# Altium integrated library National Semiconductor Amplifier.IntLib: 1665 symbols (part 3 of 44)
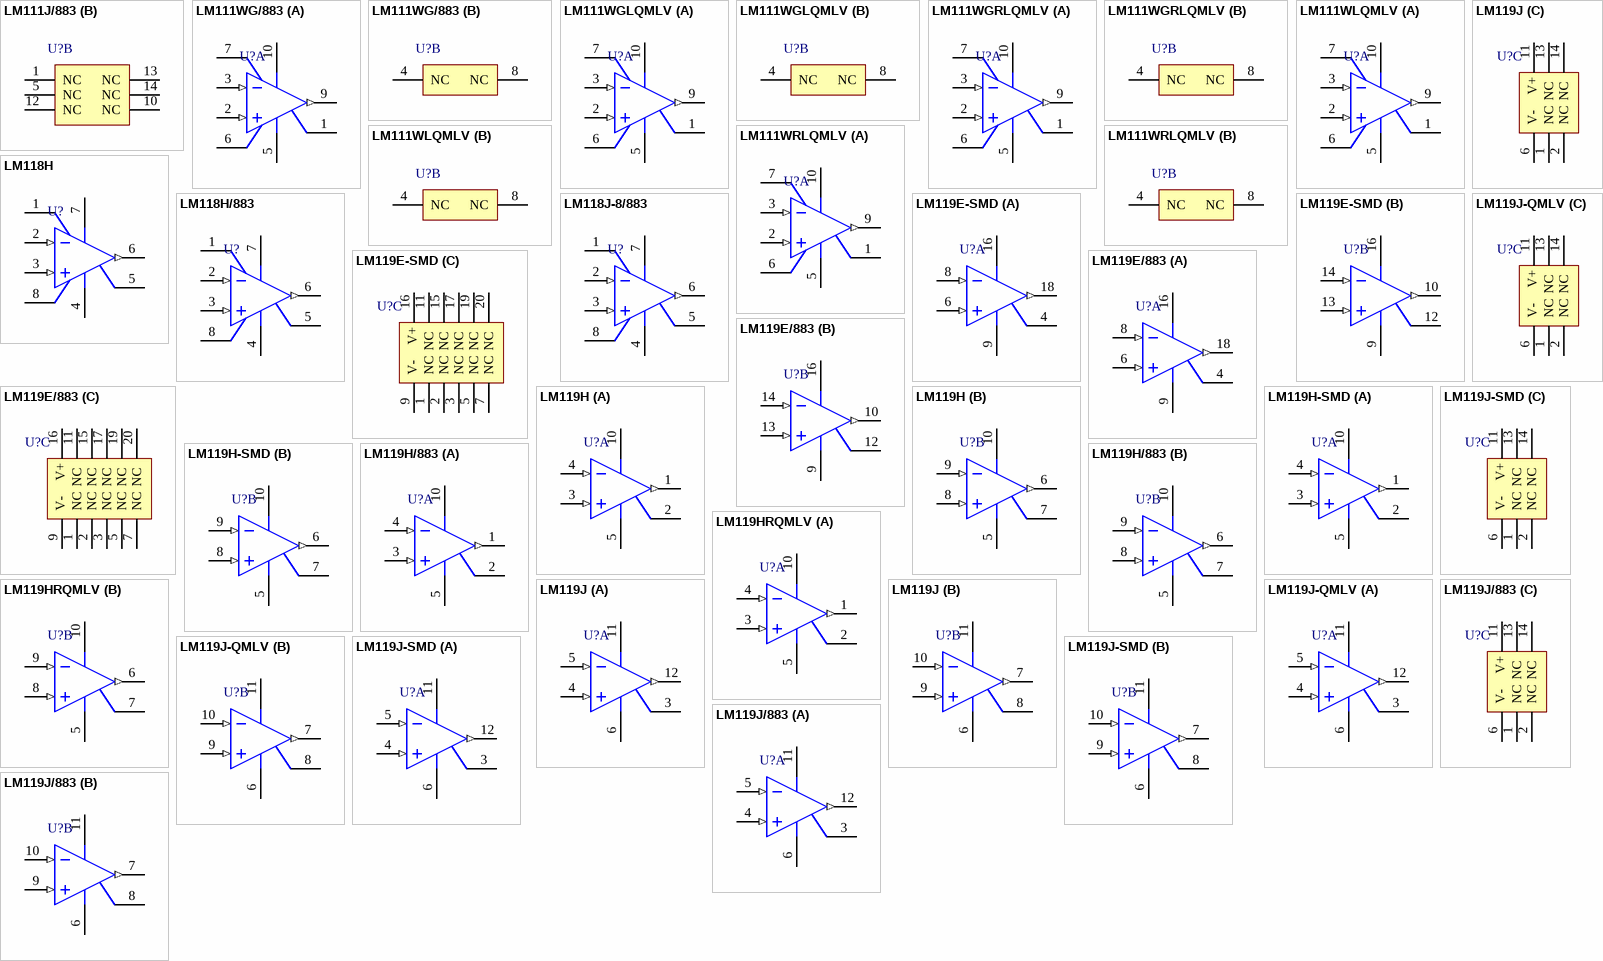
[diagram p86: symbols LM111J/883 to LM119J/883]

## LM118J-8/883
designator U?
Operational Amplifier, 8-pin CerDIP; PartNumber: LM118J-8/883; Manufacturer: National Semiconductor; PackageTopMarking: NSZSSXXYYA*LM118J-8*/883 Q; PowerWise: N; CompType: Amplifiers; High-Reliability: Y; DatasheetVersion: Aug-2000; PackageVersion: revM, Jul-2002; PackageReference: J08A; PackageDescription: Cerdip, .400 x .310in Body, 8 Lead, .300in Centers, .100in Pitch; RoHS: N; PinCount: 8; ComponentLink1Description: Manufacturer URL; ComponentLink1URL: http://www.national.com/; ComponentLink2Description: LM118 Datasheet; ComponentLink2URL: http://www.national.com/ds/LM/LM118QML.pdf; ComponentLink3Description: LM118 Web Page; ComponentLink3URL: http://www.national.com/pf/LM/LM118.html; ComponentLink4Description: J08A Package Page; ComponentLink4URL: http://www.national.com/packaging/folders/j08a.html
footprint J08A (DIP, 8-Leads, Row Spacing 7.62mm, Pitch 2.54mm, Body 9.78x6.73mm)
pins: 1 BAL/COMP1, 2 IN- (in), 3 IN+ (in), 4 V- (power), 5 BAL/COMP3, 6 OUT (out), 7 V+ (power), 8 COMP2

## LM119E-SMD
designator U?
High Speed Dual Comparator, 20-pin LCC; PartNumber: LM119E-SMD; Manufacturer: National Semiconductor; PackageTopMarking: NS ZSSXXYYA*Q*86014012A*27014; PowerWise: N; CompType: Amplifiers; High-Reliability: Y; DatasheetVersion: Jul-2008; PackageVersion: revF, May-2004; PackageReference: E20A; PackageDescription: Leadless Chip Carrier, Type C, 20 Terminal; RoHS: N; PinCount: 20; Code_JEDEC: MS-004-CB; ComponentLink1Description: Manufacturer URL; ComponentLink1URL: http://www.national.com/; ComponentLink2Description: LM119 Datasheet; ComponentLink2URL: http://www.national.com/ds/LM/LM119QML.pdf; ComponentLink3Description: LM119 Web Page; ComponentLink3URL: http://www.national.com/pf/LM/LM119.html; ComponentLink4Description: E20A Package Page; ComponentLink4URL: http://www.national.com/packaging/folders/e20a.html
footprint E20A_N (Leadless Chip Carrier, 20-Leads, Body 8.9x8.9mm, Pitch 1.27mm, IPC Medium Density)
footprint E20A_L (Leadless Chip Carrier, 20-Leads, Body 8.9x8.9mm, Pitch 1.27mm, IPC High Density)
footprint E20A_M (Leadless Chip Carrier, 20-Leads, Body 8.9x8.9mm, Pitch 1.27mm, IPC Low Density)
pins on every part: 9 V- (power), 16 V+ (power)
part A pins: 4 GND1 (power), 6 IN1+ (in), 8 IN1- (in), 18 OUT1 (out)
part B pins: 10 OUT2 (out), 12 GND2 (power), 13 IN2+ (in), 14 IN2- (in)
part C pins: 1 NC, 2 NC, 3 NC, 5 NC, 7 NC, 11 NC, 15 NC, 17 NC, 19 NC, 20 NC

## LM119E/883
designator U?
High Speed Dual Comparator, 20-pin LCC; PartNumber: LM119E/883; Manufacturer: National Semiconductor; PackageTopMarking: NSZSSXXYYA*LM119E*/883 Q; PowerWise: N; CompType: Amplifiers; High-Reliability: Y; DatasheetVersion: Jul-2008; PackageVersion: revF, May-2004; PackageReference: E20A; PackageDescription: Leadless Chip Carrier, Type C, 20 Terminal; RoHS: N; PinCount: 20; Code_JEDEC: MS-004-CB; ComponentLink1Description: Manufacturer URL; ComponentLink1URL: http://www.national.com/; ComponentLink2Description: LM119 Datasheet; ComponentLink2URL: http://www.national.com/ds/LM/LM119QML.pdf; ComponentLink3Description: LM119 Web Page; ComponentLink3URL: http://www.national.com/pf/LM/LM119.html; ComponentLink4Description: E20A Package Page; ComponentLink4URL: http://www.national.com/packaging/folders/e20a.html
footprint E20A_N (Leadless Chip Carrier, 20-Leads, Body 8.9x8.9mm, Pitch 1.27mm, IPC Medium Density)
footprint E20A_L (Leadless Chip Carrier, 20-Leads, Body 8.9x8.9mm, Pitch 1.27mm, IPC High Density)
footprint E20A_M (Leadless Chip Carrier, 20-Leads, Body 8.9x8.9mm, Pitch 1.27mm, IPC Low Density)
pins on every part: 9 V- (power), 16 V+ (power)
part A pins: 4 GND1 (power), 6 IN1+ (in), 8 IN1- (in), 18 OUT1 (out)
part B pins: 10 OUT2 (out), 12 GND2 (power), 13 IN2+ (in), 14 IN2- (in)
part C pins: 1 NC, 2 NC, 3 NC, 5 NC, 7 NC, 11 NC, 15 NC, 17 NC, 19 NC, 20 NC

## LM119H
designator U?
High Speed Dual Comparator, 10-pin TO-100; PartNumber: LM119H; Manufacturer: National Semiconductor; PackageTopMarking: NSZXYTTE# LM119H; PowerWise: N; CompType: Amplifiers; High-Reliability: Y; DatasheetVersion: Aug-2000; PackageVersion: revG, Nov-2008; PackageReference: H10C; PackageDescription: Metal Can, TO-100, 10 Lead, .230in Dia, P.C.; RoHS: N; PinCount: 10; ComponentLink1Description: Manufacturer URL; ComponentLink1URL: http://www.national.com/; ComponentLink2Description: LM119 Datasheet; ComponentLink2URL: http://www.national.com/ds/LM/LM119.pdf; ComponentLink3Description: LM119 Web Page; ComponentLink3URL: http://www.national.com/pf/LM/LM119.html; ComponentLink4Description: H10C Package Page; ComponentLink4URL: http://www.national.com/packaging/folders/h10c.html
footprint H10C (Can; 10 Leads; Pin Circle Dia. 5.84 mm; Lead Dia. 0.48 mm (max))
pins on every part: 5 V- (power), 10 V+ (power)
part A pins: 1 OUT1 (out), 2 GND1 (power), 3 IN1+ (in), 4 IN1- (in)
part B pins: 6 OUT2 (out), 7 GND2 (power), 8 IN2+ (in), 9 IN2- (in)

## LM119H-SMD
designator U?
High Speed Dual Comparator, 10-pin TO-100; PartNumber: LM119H-SMD; Manufacturer: National Semiconductor; PackageTopMarking: NSZSSXXYYA Q*8601401IA 27014; PowerWise: N; CompType: Amplifiers; High-Reliability: Y; DatasheetVersion: Aug-2000; PackageVersion: revG, Nov-2008; PackageReference: H10C; PackageDescription: Metal Can, TO-100, 10 Lead, .230in Dia, P.C.; RoHS: N; PinCount: 10; ComponentLink1Description: Manufacturer URL; ComponentLink1URL: http://www.national.com/; ComponentLink2Description: LM119 Datasheet; ComponentLink2URL: http://www.national.com/ds/LM/LM119QML.pdf; ComponentLink3Description: LM119 Web Page; ComponentLink3URL: http://www.national.com/pf/LM/LM119.html; ComponentLink4Description: H10C Package Page; ComponentLink4URL: http://www.national.com/packaging/folders/h10c.html
footprint H10C (Can; 10 Leads; Pin Circle Dia. 5.84 mm; Lead Dia. 0.48 mm (max))
pins on every part: 5 V- (power), 10 V+ (power)
part A pins: 1 OUT1 (out), 2 GND1 (power), 3 IN1+ (in), 4 IN1- (in)
part B pins: 6 OUT2 (out), 7 GND2 (power), 8 IN2+ (in), 9 IN2- (in)

## LM119H/883
designator U?
High Speed Dual Comparator, 10-pin TO-100; PartNumber: LM119H/883; Manufacturer: National Semiconductor; PackageTopMarking: NSZSSXXYYA LM119H/883 Q; PowerWise: N; CompType: Amplifiers; High-Reliability: Y; DatasheetVersion: Aug-2000; PackageVersion: revG, Nov-2008; PackageReference: H10C; PackageDescription: Metal Can, TO-100, 10 Lead, .230in Dia, P.C.; RoHS: N; PinCount: 10; ComponentLink1Description: Manufacturer URL; ComponentLink1URL: http://www.national.com/; ComponentLink2Description: LM119 Datasheet; ComponentLink2URL: http://www.national.com/ds/LM/LM119QML.pdf; ComponentLink3Description: LM119 Web Page; ComponentLink3URL: http://www.national.com/pf/LM/LM119.html; ComponentLink4Description: H10C Package Page; ComponentLink4URL: http://www.national.com/packaging/folders/h10c.html
footprint H10C (Can; 10 Leads; Pin Circle Dia. 5.84 mm; Lead Dia. 0.48 mm (max))
pins on every part: 5 V- (power), 10 V+ (power)
part A pins: 1 OUT1 (out), 2 GND1 (power), 3 IN1+ (in), 4 IN1- (in)
part B pins: 6 OUT2 (out), 7 GND2 (power), 8 IN2+ (in), 9 IN2- (in)

## LM119HRQMLV
designator U?
High Speed Dual Comparator, 10-pin TO-100; PartNumber: LM119HRQMLV; Manufacturer: National Semiconductor; PackageTopMarking: NSZSSXXYYA LM119HRQV Q*5962R9679801VIA; PowerWise: N; CompType: Amplifiers; High-Reliability: Y; DatasheetVersion: Jul-2008; PackageVersion: revG, Nov-2008; PackageReference: H10C; PackageDescription: Metal Can, TO-100, 10 Lead, .230in Dia, P.C.; RoHS: N; PinCount: 10; ComponentLink1Description: Manufacturer URL; ComponentLink1URL: http://www.national.com/; ComponentLink2Description: LM119 Datasheet; ComponentLink2URL: http://www.national.com/ds/LM/LM119QML.pdf; ComponentLink3Description: LM119 Web Page; ComponentLink3URL: http://www.national.com/pf/LM/LM119.html; ComponentLink4Description: H10C Package Page; ComponentLink4URL: http://www.national.com/packaging/folders/h10c.html
footprint H10C (Can; 10 Leads; Pin Circle Dia. 5.84 mm; Lead Dia. 0.48 mm (max))
pins on every part: 5 V- (power), 10 V+ (power)
part A pins: 1 OUT1 (out), 2 GND1 (power), 3 IN1+ (in), 4 IN1- (in)
part B pins: 6 OUT2 (out), 7 GND2 (power), 8 IN2+ (in), 9 IN2- (in)

## LM119J
designator U?
High Speed Dual Comparator, 14-pin CerDIP; PartNumber: LM119J; Manufacturer: National Semiconductor; PackageTopMarking: NSUZXYYTT*LM119J; PowerWise: N; CompType: Amplifiers; High-Reliability: Y; DatasheetVersion: Aug-2000; PackageVersion: revJ, Jul-2002; PackageReference: J14A; PackageDescription: Cerdip, .400 x .310in Body, 14 Lead, .300in Centers, .100in Pitch; RoHS: N; PinCount: 14; ComponentLink1Description: Manufacturer URL; ComponentLink1URL: http://www.national.com/; ComponentLink2Description: LM119 Datasheet; ComponentLink2URL: http://www.national.com/ds/LM/LM119.pdf; ComponentLink3Description: LM119 Web Page; ComponentLink3URL: http://www.national.com/pf/LM/LM119.html; ComponentLink4Description: J14A Package Page; ComponentLink4URL: http://www.national.com/packaging/folders/j14a.html
footprint J14A (DIP, 14-Leads, Row Spacing 7.62mm, Pitch 2.54mm, Body 19.56x6.73mm)
pins on every part: 6 V- (power), 11 V+ (power)
part A pins: 3 GND1 (power), 4 IN1+ (in), 5 IN1- (in), 12 OUT1 (out)
part B pins: 7 OUT2 (out), 8 GND2 (power), 9 IN2+ (in), 10 IN2- (in)
part C pins: 1 NC, 2 NC, 13 NC, 14 NC

## LM119J-QMLV
designator U?
High Speed Dual Comparator, 14-pin CerDIP; PartNumber: LM119J-QMLV; Manufacturer: National Semiconductor; PackageTopMarking: NSZSSXXYYA*LM119J-QV Q*5962-9679801VCA; PowerWise: N; CompType: Amplifiers; High-Reliability: Y; DatasheetVersion: Aug-2000; PackageVersion: revJ, Jul-2002; PackageReference: J14A; PackageDescription: Cerdip, .400 x .310in Body, 14 Lead, .300in Centers, .100in Pitch; RoHS: N; PinCount: 14; ComponentLink1Description: Manufacturer URL; ComponentLink1URL: http://www.national.com/; ComponentLink2Description: LM119 Datasheet; ComponentLink2URL: http://www.national.com/ds/LM/LM119QML.pdf; ComponentLink3Description: LM119 Web Page; ComponentLink3URL: http://www.national.com/pf/LM/LM119.html; ComponentLink4Description: J14A Package Page; ComponentLink4URL: http://www.national.com/packaging/folders/j14a.html
footprint J14A (DIP, 14-Leads, Row Spacing 7.62mm, Pitch 2.54mm, Body 19.56x6.73mm)
pins on every part: 6 V- (power), 11 V+ (power)
part A pins: 3 GND1 (power), 4 IN1+ (in), 5 IN1- (in), 12 OUT1 (out)
part B pins: 7 OUT2 (out), 8 GND2 (power), 9 IN2+ (in), 10 IN2- (in)
part C pins: 1 NC, 2 NC, 13 NC, 14 NC

## LM119J-SMD
designator U?
High Speed Dual Comparator, 14-pin CerDIP; PartNumber: LM119J-SMD; Manufacturer: National Semiconductor; PackageTopMarking: NSZSSXXYYA*8601401CA 27014*Q; PowerWise: N; CompType: Amplifiers; High-Reliability: Y; DatasheetVersion: Aug-2000; PackageVersion: revJ, Jul-2002; PackageReference: J14A; PackageDescription: Cerdip, .400 x .310in Body, 14 Lead, .300in Centers, .100in Pitch; RoHS: N; PinCount: 14; ComponentLink1Description: Manufacturer URL; ComponentLink1URL: http://www.national.com/; ComponentLink2Description: LM119 Datasheet; ComponentLink2URL: http://www.national.com/ds/LM/LM119QML.pdf; ComponentLink3Description: LM119 Web Page; ComponentLink3URL: http://www.national.com/pf/LM/LM119.html; ComponentLink4Description: J14A Package Page; ComponentLink4URL: http://www.national.com/packaging/folders/j14a.html
footprint J14A (DIP, 14-Leads, Row Spacing 7.62mm, Pitch 2.54mm, Body 19.56x6.73mm)
pins on every part: 6 V- (power), 11 V+ (power)
part A pins: 3 GND1 (power), 4 IN1+ (in), 5 IN1- (in), 12 OUT1 (out)
part B pins: 7 OUT2 (out), 8 GND2 (power), 9 IN2+ (in), 10 IN2- (in)
part C pins: 1 NC, 2 NC, 13 NC, 14 NC

## LM119J/883
designator U?
High Speed Dual Comparator, 14-pin CerDIP; PartNumber: LM119J/883; Manufacturer: National Semiconductor; PackageTopMarking: NSZSSXXYYA*LM119J/883 Q; PowerWise: N; CompType: Amplifiers; High-Reliability: Y; DatasheetVersion: Aug-2000; PackageVersion: revJ, Jul-2002; PackageReference: J14A; PackageDescription: Cerdip, .400 x .310in Body, 14 Lead, .300in Centers, .100in Pitch; RoHS: N; PinCount: 14; ComponentLink1Description: Manufacturer URL; ComponentLink1URL: http://www.national.com/; ComponentLink2Description: LM119 Datasheet; ComponentLink2URL: http://www.national.com/ds/LM/LM119QML.pdf; ComponentLink3Description: LM119 Web Page; ComponentLink3URL: http://www.national.com/pf/LM/LM119.html; ComponentLink4Description: J14A Package Page; ComponentLink4URL: http://www.national.com/packaging/folders/j14a.html
footprint J14A (DIP, 14-Leads, Row Spacing 7.62mm, Pitch 2.54mm, Body 19.56x6.73mm)
pins on every part: 6 V- (power), 11 V+ (power)
part A pins: 3 GND1 (power), 4 IN1+ (in), 5 IN1- (in), 12 OUT1 (out)
part B pins: 7 OUT2 (out), 8 GND2 (power), 9 IN2+ (in), 10 IN2- (in)
part C pins: 1 NC, 2 NC, 13 NC, 14 NC

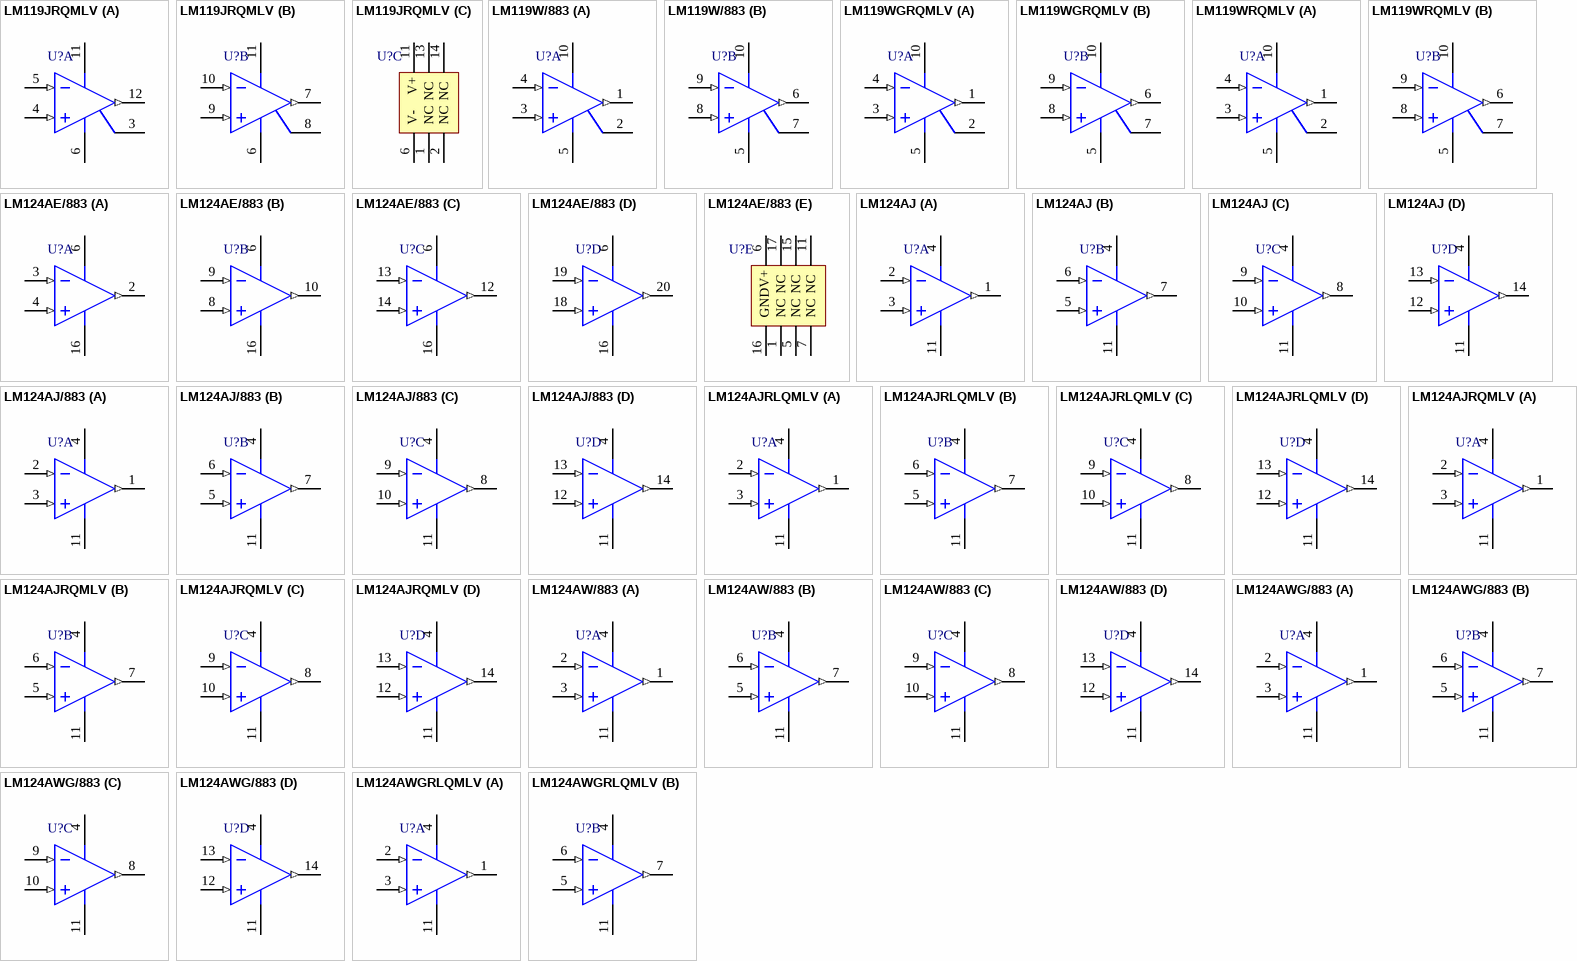
[diagram p5: symbols LM119JRQMLV to LM124AWGRLQMLV]

## LM119JRQMLV
designator U?
High Speed Dual Comparator, 14-pin CerDIP; PartNumber: LM119JRQMLV; Manufacturer: National Semiconductor; PackageTopMarking: NSZSSXXYYA*LM119JRQV Q*5962R9679801VCA; PowerWise: N; CompType: Amplifiers; High-Reliability: Y; DatasheetVersion: Jul-2008; PackageVersion: revJ, Jul-2002; PackageReference: J14A; PackageDescription: Cerdip, .400 x .310in Body, 14 Lead, .300in Centers, .100in Pitch; RoHS: N; PinCount: 14; ComponentLink1Description: Manufacturer URL; ComponentLink1URL: http://www.national.com/; ComponentLink2Description: LM119 Datasheet; ComponentLink2URL: http://www.national.com/ds/LM/LM119QML.pdf; ComponentLink3Description: LM119 Web Page; ComponentLink3URL: http://www.national.com/pf/LM/LM119.html; ComponentLink4Description: J14A Package Page; ComponentLink4URL: http://www.national.com/packaging/folders/j14a.html
footprint J14A (DIP, 14-Leads, Row Spacing 7.62mm, Pitch 2.54mm, Body 19.56x6.73mm)
pins on every part: 6 V- (power), 11 V+ (power)
part A pins: 3 GND1 (power), 4 IN1+ (in), 5 IN1- (in), 12 OUT1 (out)
part B pins: 7 OUT2 (out), 8 GND2 (power), 9 IN2+ (in), 10 IN2- (in)
part C pins: 1 NC, 2 NC, 13 NC, 14 NC

## LM119W/883
designator U?
High Speed Dual Comparator, 10-pin CerPACK; PartNumber: LM119W/883; Manufacturer: National Semiconductor; PackageTopMarking: NS*LM119W*/883 Q*ZSSXXYYA; PowerWise: N; CompType: Amplifiers; High-Reliability: Y; DatasheetVersion: Aug-2000; PackageVersion: revH, Sep-2003; PackageReference: W10A; PackageDescription: Cerpack, .270 x .241 x .067in Body, 10 Lead, .050in Pitch; RoHS: N; PinCount: 10; Code_JEDEC: MS-033-AA; ComponentLink1Description: Manufacturer URL; ComponentLink1URL: http://www.national.com/; ComponentLink2Description: LM119 Datasheet; ComponentLink2URL: http://www.national.com/ds/LM/LM119QML.pdf; ComponentLink3Description: LM119 Web Page; ComponentLink3URL: http://www.national.com/pf/LM/LM119.html; ComponentLink4Description: W10A Package Page; ComponentLink4URL: http://www.national.com/packaging/folders/w10a.html
footprint W10A (DFP; 10 Leads; Body 6.9 x 6.9 mm (LxW max); Pitch 1.27 mm)
pins on every part: 5 V- (power), 10 V+ (power)
part A pins: 1 OUT1 (out), 2 GND1 (power), 3 IN1+ (in), 4 IN1- (in)
part B pins: 6 OUT2 (out), 7 GND2 (power), 8 IN2+ (in), 9 IN2- (in)

## LM119WGRQMLV
designator U?
High Speed Dual Comparator, 10-pin CerPACK; PartNumber: LM119WGRQMLV; Manufacturer: National Semiconductor; PackageTopMarking: NS5962R96*79801VXA*LM119WGR*QV Q*ZSSXXYYA; PowerWise: N; CompType: Amplifiers; High-Reliability: Y; DatasheetVersion: Jul-2008; PackageVersion: revF, Oct-2008; PackageReference: WG10A; PackageDescription: Cerpack, .270 x .241 x .070in, 10 Lead, .050in Pitch, Gull Wing; RoHS: N; PinCount: 10; ComponentLink1Description: Manufacturer URL; ComponentLink1URL: http://www.national.com/; ComponentLink2Description: LM119 Datasheet; ComponentLink2URL: http://www.national.com/ds/LM/LM119QML.pdf; ComponentLink3Description: LM119 Web Page; ComponentLink3URL: http://www.national.com/pf/LM/LM119.html; ComponentLink4Description: WG10A Package Page; ComponentLink4URL: http://www.national.com/packaging/folders/wg10a.html
footprint WG10A_N (CERPACK, 10-Leads, Body 6.9x6.3mm, Pitch 1.27mm, IPC Medium Density)
footprint WG10A_L (CERPACK, 10-Leads, Body 6.9x6.3mm, Pitch 1.27mm, IPC High Density)
footprint WG10A_M (CERPACK, 10-Leads, Body 6.9x6.3mm, Pitch 1.27mm, IPC Low Density)
pins on every part: 5 V- (power), 10 V+ (power)
part A pins: 1 OUT1 (out), 2 GND1 (power), 3 IN1+ (in), 4 IN1- (in)
part B pins: 6 OUT2 (out), 7 GND2 (power), 8 IN2+ (in), 9 IN2- (in)

## LM119WRQMLV
designator U?
High Speed Dual Comparator, 10-pin CerPACK; PartNumber: LM119WRQMLV; Manufacturer: National Semiconductor; PackageTopMarking: NS5962R96*79801VHA*LM119WR*QV Q*ZSSXXYYA; PowerWise: N; CompType: Amplifiers; High-Reliability: Y; DatasheetVersion: Jul-2008; PackageVersion: revH, Sep-2003; PackageReference: W10A; PackageDescription: Cerpack, .270 x .241 x .067in Body, 10 Lead, .050in Pitch; RoHS: N; PinCount: 10; Code_JEDEC: MS-033-AA; ComponentLink1Description: Manufacturer URL; ComponentLink1URL: http://www.national.com/; ComponentLink2Description: LM119 Datasheet; ComponentLink2URL: http://www.national.com/ds/LM/LM119QML.pdf; ComponentLink3Description: LM119 Web Page; ComponentLink3URL: http://www.national.com/pf/LM/LM119.html; ComponentLink4Description: W10A Package Page; ComponentLink4URL: http://www.national.com/packaging/folders/w10a.html
footprint W10A (DFP; 10 Leads; Body 6.9 x 6.9 mm (LxW max); Pitch 1.27 mm)
pins on every part: 5 V- (power), 10 V+ (power)
part A pins: 1 OUT1 (out), 2 GND1 (power), 3 IN1+ (in), 4 IN1- (in)
part B pins: 6 OUT2 (out), 7 GND2 (power), 8 IN2+ (in), 9 IN2- (in)

## LM124AE/883
designator U?
Low Power Quad Operational Amplifier, 20-pin LCC; PartNumber: LM124AE/883; Manufacturer: National Semiconductor; PackageTopMarking: NSZSSXXYYA*LM124AE*/883 Q*77043022A*27014; PowerWise: N; CompType: Amplifiers; High-Reliability: Y; DatasheetVersion: Jun-2006; PackageVersion: revF, May-2004; PackageReference: E20A; PackageDescription: Leadless Chip Carrier, Type C, 20 Terminal; RoHS: N; PinCount: 20; Code_JEDEC: MS-004-CB; ComponentLink1Description: Manufacturer URL; ComponentLink1URL: http://www.national.com/; ComponentLink2Description: LM124A Datasheet; ComponentLink2URL: http://www.national.com/ds/LM/LM124AQML.pdf; ComponentLink3Description: LM124A Web Page; ComponentLink3URL: http://www.national.com/pf/LM/LM124A.html; ComponentLink4Description: E20A Package Page; ComponentLink4URL: http://www.national.com/packaging/folders/e20a.html
footprint E20A_N (Leadless Chip Carrier, 20-Leads, Body 8.9x8.9mm, Pitch 1.27mm, IPC Medium Density)
footprint E20A_L (Leadless Chip Carrier, 20-Leads, Body 8.9x8.9mm, Pitch 1.27mm, IPC High Density)
footprint E20A_M (Leadless Chip Carrier, 20-Leads, Body 8.9x8.9mm, Pitch 1.27mm, IPC Low Density)
pins on every part: 6 V+ (power), 16 GND (power)
part A pins: 2 OUT1 (out), 3 IN1- (in), 4 IN1+ (in)
part B pins: 8 IN2+ (in), 9 IN2- (in), 10 OUT2 (out)
part C pins: 12 OUT3 (out), 13 IN3- (in), 14 IN3+ (in)
part D pins: 18 IN4+ (in), 19 IN4- (in), 20 OUT4 (out)
part E pins: 1 NC, 5 NC, 7 NC, 11 NC, 15 NC, 17 NC

## LM124AJ
designator U?
Low Power Quad Operational Amplifier, 14-pin CerDIP; PartNumber: LM124AJ; Manufacturer: National Semiconductor; PackageTopMarking: NSUZXYYTT*LM124AJ; PowerWise: N; CompType: Amplifiers; High-Reliability: Y; DatasheetVersion: Aug-2000; PackageVersion: revJ, Jul-2002; PackageReference: J14A; PackageDescription: Cerdip, .400 x .310in Body, 14 Lead, .300in Centers, .100in Pitch; RoHS: N; PinCount: 14; ComponentLink1Description: Manufacturer URL; ComponentLink1URL: http://www.national.com/; ComponentLink2Description: LM124A Datasheet; ComponentLink2URL: http://www.national.com/ds/LM/LM124.pdf; ComponentLink3Description: LM124A Web Page; ComponentLink3URL: http://www.national.com/pf/LM/LM124A.html; ComponentLink4Description: J14A Package Page; ComponentLink4URL: http://www.national.com/packaging/folders/j14a.html
footprint J14A (DIP, 14-Leads, Row Spacing 7.62mm, Pitch 2.54mm, Body 19.56x6.73mm)
pins on every part: 4 V+ (power), 11 GND (power)
part A pins: 1 OUT1 (out), 2 IN1- (in), 3 IN1+ (in)
part B pins: 5 IN2+ (in), 6 IN2- (in), 7 OUT2 (out)
part C pins: 8 OUT3 (out), 9 IN3- (in), 10 IN3+ (in)
part D pins: 12 IN4+ (in), 13 IN4- (in), 14 OUT4 (out)

## LM124AJ/883
designator U?
Low Power Quad Operational Amplifier, 14-pin CerDIP; PartNumber: LM124AJ/883; Manufacturer: National Semiconductor; PackageTopMarking: NSZSSXXYYA*LM124AJ/883 Q*7704302CA 27014; PowerWise: N; CompType: Amplifiers; High-Reliability: Y; DatasheetVersion: Aug-2000; PackageVersion: revJ, Jul-2002; PackageReference: J14A; PackageDescription: Cerdip, .400 x .310in Body, 14 Lead, .300in Centers, .100in Pitch; RoHS: N; PinCount: 14; ComponentLink1Description: Manufacturer URL; ComponentLink1URL: http://www.national.com/; ComponentLink2Description: LM124A Datasheet; ComponentLink2URL: http://www.national.com/ds/LM/LM124AQML.pdf; ComponentLink3Description: LM124A Web Page; ComponentLink3URL: http://www.national.com/pf/LM/LM124A.html; ComponentLink4Description: J14A Package Page; ComponentLink4URL: http://www.national.com/packaging/folders/j14a.html
footprint J14A (DIP, 14-Leads, Row Spacing 7.62mm, Pitch 2.54mm, Body 19.56x6.73mm)
pins on every part: 4 V+ (power), 11 GND (power)
part A pins: 1 OUT1 (out), 2 IN1- (in), 3 IN1+ (in)
part B pins: 5 IN2+ (in), 6 IN2- (in), 7 OUT2 (out)
part C pins: 8 OUT3 (out), 9 IN3- (in), 10 IN3+ (in)
part D pins: 12 IN4+ (in), 13 IN4- (in), 14 OUT4 (out)

## LM124AJRLQMLV
designator U?
Low Power Quad Operational Amplifier, 14-pin CerDIP; PartNumber: LM124AJRLQMLV; Manufacturer: National Semiconductor; PackageTopMarking: NSZSSXXYYA*LM124AJRLQV Q*5962R9950402VCA; PowerWise: N; CompType: Amplifiers; High-Reliability: Y; DatasheetVersion: Aug-2000; PackageVersion: revJ, Jul-2002; PackageReference: J14A; PackageDescription: Cerdip, .400 x .310in Body, 14 Lead, .300in Centers, .100in Pitch; RoHS: N; PinCount: 14; ComponentLink1Description: Manufacturer URL; ComponentLink1URL: http://www.national.com/; ComponentLink2Description: LM124A Datasheet; ComponentLink2URL: http://www.national.com/ds/LM/LM124AQML.pdf; ComponentLink3Description: LM124A Web Page; ComponentLink3URL: http://www.national.com/pf/LM/LM124A.html; ComponentLink4Description: J14A Package Page; ComponentLink4URL: http://www.national.com/packaging/folders/j14a.html
footprint J14A (DIP, 14-Leads, Row Spacing 7.62mm, Pitch 2.54mm, Body 19.56x6.73mm)
pins on every part: 4 V+ (power), 11 GND (power)
part A pins: 1 OUT1 (out), 2 IN1- (in), 3 IN1+ (in)
part B pins: 5 IN2+ (in), 6 IN2- (in), 7 OUT2 (out)
part C pins: 8 OUT3 (out), 9 IN3- (in), 10 IN3+ (in)
part D pins: 12 IN4+ (in), 13 IN4- (in), 14 OUT4 (out)

## LM124AJRQMLV
designator U?
Low Power Quad Operational Amplifier, 14-pin CerDIP; PartNumber: LM124AJRQMLV; Manufacturer: National Semiconductor; PackageTopMarking: NSZSSXXYYA*LM124AJRQV Q*5962R9950401VCA; PowerWise: N; CompType: Amplifiers; High-Reliability: Y; DatasheetVersion: Aug-2000; PackageVersion: revJ, Jul-2002; PackageReference: J14A; PackageDescription: Cerdip, .400 x .310in Body, 14 Lead, .300in Centers, .100in Pitch; RoHS: N; PinCount: 14; ComponentLink1Description: Manufacturer URL; ComponentLink1URL: http://www.national.com/; ComponentLink2Description: LM124A Datasheet; ComponentLink2URL: http://www.national.com/ds/LM/LM124AQML.pdf; ComponentLink3Description: LM124A Web Page; ComponentLink3URL: http://www.national.com/pf/LM/LM124A.html; ComponentLink4Description: J14A Package Page; ComponentLink4URL: http://www.national.com/packaging/folders/j14a.html
footprint J14A (DIP, 14-Leads, Row Spacing 7.62mm, Pitch 2.54mm, Body 19.56x6.73mm)
pins on every part: 4 V+ (power), 11 GND (power)
part A pins: 1 OUT1 (out), 2 IN1- (in), 3 IN1+ (in)
part B pins: 5 IN2+ (in), 6 IN2- (in), 7 OUT2 (out)
part C pins: 8 OUT3 (out), 9 IN3- (in), 10 IN3+ (in)
part D pins: 12 IN4+ (in), 13 IN4- (in), 14 OUT4 (out)

## LM124AW/883
designator U?
Low Power Quad Operational Amplifier, 14-pin CerPACK; PartNumber: LM124AW/883; Manufacturer: National Semiconductor; PackageTopMarking: NSZSSXXYYA*LM124AW/883*Q; PowerWise: N; CompType: Amplifiers; High-Reliability: Y; DatasheetVersion: Aug-2000; PackageVersion: revP, Jun-2004; PackageReference: W14B; PackageDescription: Cerpack, .390 x .250 x .070in Body, 14 Lead, .050in Pitch; RoHS: N; PinCount: 14; Code_JEDEC: MO-092-AB; ComponentLink1Description: Manufacturer URL; ComponentLink1URL: http://www.national.com/; ComponentLink2Description: LM124A Datasheet; ComponentLink2URL: http://www.national.com/ds/LM/LM124AQML.pdf; ComponentLink3Description: LM124A Web Page; ComponentLink3URL: http://www.national.com/pf/LM/LM124A.html; ComponentLink4Description: W14B Package Page; ComponentLink4URL: http://www.national.com/packaging/folders/w14b.html
footprint W14B (DFP; 14 Leads; Body 9.8 x 7.1 mm (LxW max); Pitch 1.27 mm)
pins on every part: 4 V+ (power), 11 GND (power)
part A pins: 1 OUT1 (out), 2 IN1- (in), 3 IN1+ (in)
part B pins: 5 IN2+ (in), 6 IN2- (in), 7 OUT2 (out)
part C pins: 8 OUT3 (out), 9 IN3- (in), 10 IN3+ (in)
part D pins: 12 IN4+ (in), 13 IN4- (in), 14 OUT4 (out)

## LM124AWG/883
designator U?
Low Power Quad Operational Amplifier, 14-pin CerPACK; PartNumber: LM124AWG/883; Manufacturer: National Semiconductor; PackageTopMarking: NSZSSXXYYA*LM124AWG/*883 Q*7704302XA; PowerWise: N; CompType: Amplifiers; High-Reliability: Y; DatasheetVersion: Aug-2000; PackageVersion: revD, Jul-2007; PackageReference: WG14A; PackageDescription: Cerpack, .390 x .250 x .070in, 14 Lead, .050in Pitch, Gull Wing; RoHS: N; PinCount: 14; ComponentLink1Description: Manufacturer URL; ComponentLink1URL: http://www.national.com/; ComponentLink2Description: LM124A Datasheet; ComponentLink2URL: http://www.national.com/ds/LM/LM124AQML.pdf; ComponentLink3Description: LM124A Web Page; ComponentLink3URL: http://www.national.com/pf/LM/LM124A.html; ComponentLink4Description: WG14A Package Page; ComponentLink4URL: http://www.national.com/packaging/folders/wg14a.html
footprint WG14A_N (CERPACK, 14-Leads, Body 9.9x6.5mm, Pitch 1.27mm, IPC Medium Density)
footprint WG14A_L (CERPACK, 14-Leads, Body 9.9x6.5mm, Pitch 1.27mm, IPC High Density)
footprint WG14A_M (CERPACK, 14-Leads, Body 9.9x6.5mm, Pitch 1.27mm, IPC Low Density)
pins on every part: 4 V+ (power), 11 GND (power)
part A pins: 1 OUT1 (out), 2 IN1- (in), 3 IN1+ (in)
part B pins: 5 IN2+ (in), 6 IN2- (in), 7 OUT2 (out)
part C pins: 8 OUT3 (out), 9 IN3- (in), 10 IN3+ (in)
part D pins: 12 IN4+ (in), 13 IN4- (in), 14 OUT4 (out)

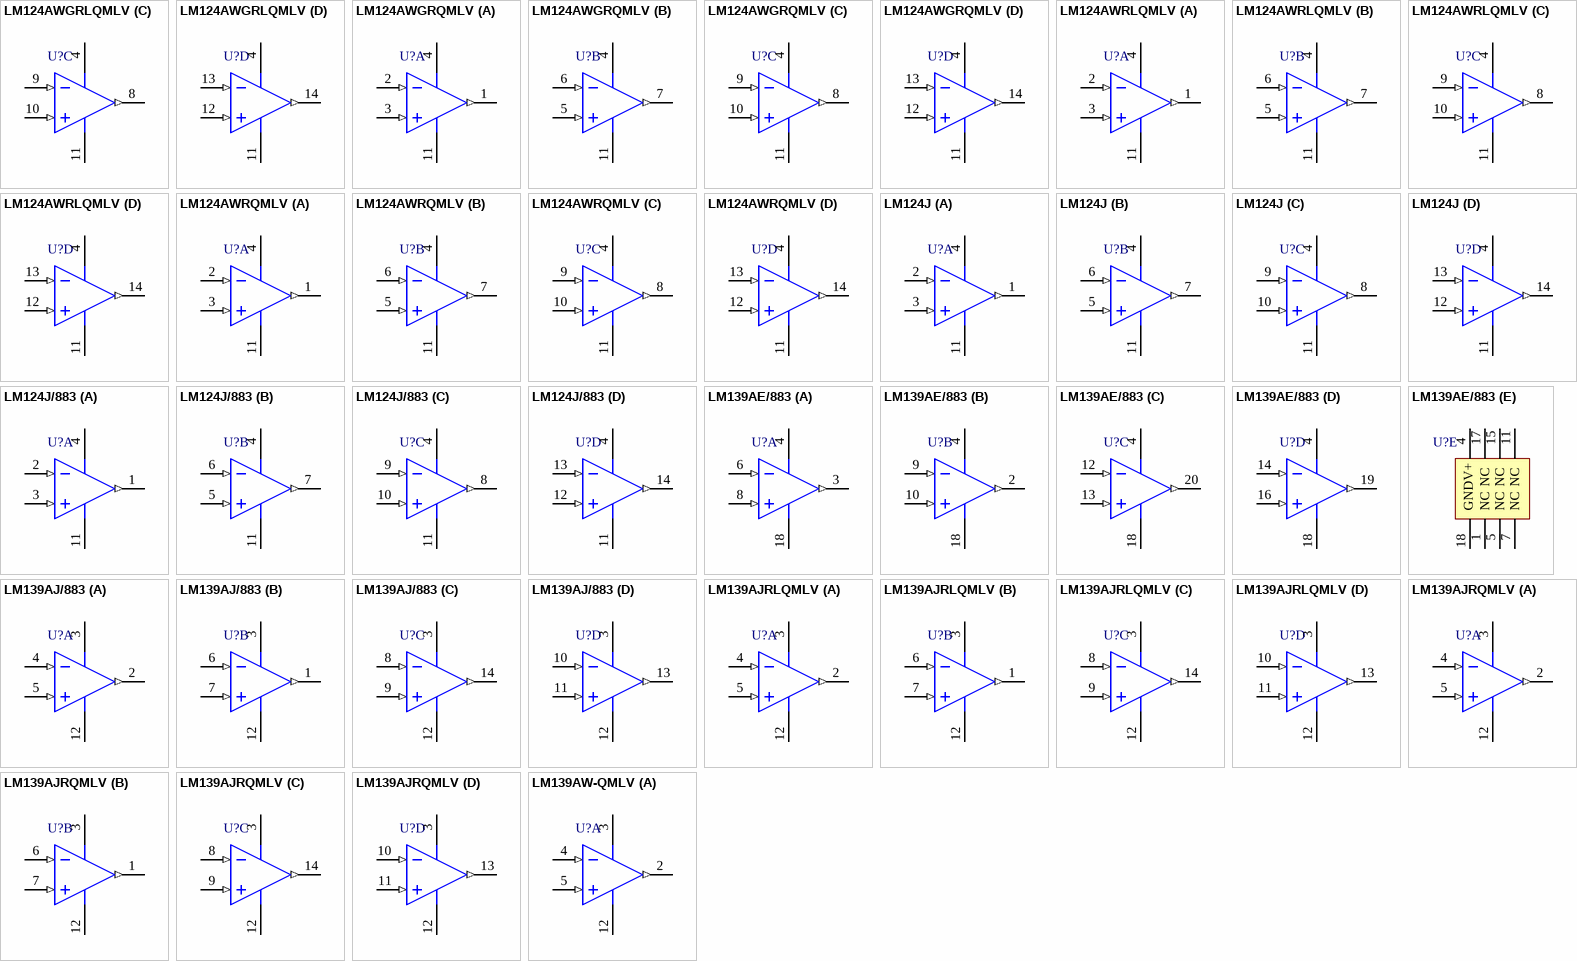
[diagram p6: symbols LM124AWGRLQMLV to LM139AW-QMLV]

## LM124AWGRLQMLV
designator U?
Low Power Quad Operational Amplifier, 14-pin CerPACK; PartNumber: LM124AWGRLQMLV; Manufacturer: National Semiconductor; PackageTopMarking: NSZSSXXYYA*LM124AWGR*LQV Q*5962R9950402*VZA; PowerWise: N; CompType: Amplifiers; High-Reliability: Y; DatasheetVersion: Aug-2000; PackageVersion: revD, Jul-2007; PackageReference: WG14A; PackageDescription: Cerpack, .390 x .250 x .070in, 14 Lead, .050in Pitch, Gull Wing; RoHS: N; PinCount: 14; ComponentLink1Description: Manufacturer URL; ComponentLink1URL: http://www.national.com/; ComponentLink2Description: LM124A Datasheet; ComponentLink2URL: http://www.national.com/ds/LM/LM124AQML.pdf; ComponentLink3Description: LM124A Web Page; ComponentLink3URL: http://www.national.com/pf/LM/LM124A.html; ComponentLink4Description: WG14A Package Page; ComponentLink4URL: http://www.national.com/packaging/folders/wg14a.html
footprint WG14A_N (CERPACK, 14-Leads, Body 9.9x6.5mm, Pitch 1.27mm, IPC Medium Density)
footprint WG14A_L (CERPACK, 14-Leads, Body 9.9x6.5mm, Pitch 1.27mm, IPC High Density)
footprint WG14A_M (CERPACK, 14-Leads, Body 9.9x6.5mm, Pitch 1.27mm, IPC Low Density)
pins on every part: 4 V+ (power), 11 GND (power)
part A pins: 1 OUT1 (out), 2 IN1- (in), 3 IN1+ (in)
part B pins: 5 IN2+ (in), 6 IN2- (in), 7 OUT2 (out)
part C pins: 8 OUT3 (out), 9 IN3- (in), 10 IN3+ (in)
part D pins: 12 IN4+ (in), 13 IN4- (in), 14 OUT4 (out)

## LM124AWGRQMLV
designator U?
Low Power Quad Operational Amplifier, 14-pin CerPACK; PartNumber: LM124AWGRQMLV; Manufacturer: National Semiconductor; PackageTopMarking: NSZSSXXYYA*LM124AWGR*QV Q 5962R*9950401VZA; PowerWise: N; CompType: Amplifiers; High-Reliability: Y; DatasheetVersion: Aug-2000; PackageVersion: revD, Jul-2007; PackageReference: WG14A; PackageDescription: Cerpack, .390 x .250 x .070in, 14 Lead, .050in Pitch, Gull Wing; RoHS: N; PinCount: 14; ComponentLink1Description: Manufacturer URL; ComponentLink1URL: http://www.national.com/; ComponentLink2Description: LM124A Datasheet; ComponentLink2URL: http://www.national.com/ds/LM/LM124AQML.pdf; ComponentLink3Description: LM124A Web Page; ComponentLink3URL: http://www.national.com/pf/LM/LM124A.html; ComponentLink4Description: WG14A Package Page; ComponentLink4URL: http://www.national.com/packaging/folders/wg14a.html
footprint WG14A_N (CERPACK, 14-Leads, Body 9.9x6.5mm, Pitch 1.27mm, IPC Medium Density)
footprint WG14A_L (CERPACK, 14-Leads, Body 9.9x6.5mm, Pitch 1.27mm, IPC High Density)
footprint WG14A_M (CERPACK, 14-Leads, Body 9.9x6.5mm, Pitch 1.27mm, IPC Low Density)
pins on every part: 4 V+ (power), 11 GND (power)
part A pins: 1 OUT1 (out), 2 IN1- (in), 3 IN1+ (in)
part B pins: 5 IN2+ (in), 6 IN2- (in), 7 OUT2 (out)
part C pins: 8 OUT3 (out), 9 IN3- (in), 10 IN3+ (in)
part D pins: 12 IN4+ (in), 13 IN4- (in), 14 OUT4 (out)

## LM124AWRLQMLV
designator U?
Low Power Quad Operational Amplifier, 14-pin CerPACK; PartNumber: LM124AWRLQMLV; Manufacturer: National Semiconductor; PackageTopMarking: NSZSSXXYYA*LM124AWR*LQV Q*5962R9950402*VDA; PowerWise: N; CompType: Amplifiers; High-Reliability: Y; DatasheetVersion: Aug-2000; PackageVersion: revP, Jun-2004; PackageReference: W14B; PackageDescription: Cerpack, .390 x .250 x .070in Body, 14 Lead, .050in Pitch; RoHS: N; PinCount: 14; Code_JEDEC: MO-092-AB; ComponentLink1Description: Manufacturer URL; ComponentLink1URL: http://www.national.com/; ComponentLink2Description: LM124A Datasheet; ComponentLink2URL: http://www.national.com/ds/LM/LM124AQML.pdf; ComponentLink3Description: LM124A Web Page; ComponentLink3URL: http://www.national.com/pf/LM/LM124A.html; ComponentLink4Description: W14B Package Page; ComponentLink4URL: http://www.national.com/packaging/folders/w14b.html
footprint W14B (DFP; 14 Leads; Body 9.8 x 7.1 mm (LxW max); Pitch 1.27 mm)
pins on every part: 4 V+ (power), 11 GND (power)
part A pins: 1 OUT1 (out), 2 IN1- (in), 3 IN1+ (in)
part B pins: 5 IN2+ (in), 6 IN2- (in), 7 OUT2 (out)
part C pins: 8 OUT3 (out), 9 IN3- (in), 10 IN3+ (in)
part D pins: 12 IN4+ (in), 13 IN4- (in), 14 OUT4 (out)

## LM124AWRQMLV
designator U?
Low Power Quad Operational Amplifier, 14-pin CerPACK; PartNumber: LM124AWRQMLV; Manufacturer: National Semiconductor; PackageTopMarking: NSZSSXXYYA*LM124AWR*QV Q 5962R*9950401VDA; PowerWise: N; CompType: Amplifiers; High-Reliability: Y; DatasheetVersion: Aug-2000; PackageVersion: revP, Jun-2004; PackageReference: W14B; PackageDescription: Cerpack, .390 x .250 x .070in Body, 14 Lead, .050in Pitch; RoHS: N; PinCount: 14; Code_JEDEC: MO-092-AB; ComponentLink1Description: Manufacturer URL; ComponentLink1URL: http://www.national.com/; ComponentLink2Description: LM124A Datasheet; ComponentLink2URL: http://www.national.com/ds/LM/LM124AQML.pdf; ComponentLink3Description: LM124A Web Page; ComponentLink3URL: http://www.national.com/pf/LM/LM124A.html; ComponentLink4Description: W14B Package Page; ComponentLink4URL: http://www.national.com/packaging/folders/w14b.html
footprint W14B (DFP; 14 Leads; Body 9.8 x 7.1 mm (LxW max); Pitch 1.27 mm)
pins on every part: 4 V+ (power), 11 GND (power)
part A pins: 1 OUT1 (out), 2 IN1- (in), 3 IN1+ (in)
part B pins: 5 IN2+ (in), 6 IN2- (in), 7 OUT2 (out)
part C pins: 8 OUT3 (out), 9 IN3- (in), 10 IN3+ (in)
part D pins: 12 IN4+ (in), 13 IN4- (in), 14 OUT4 (out)

## LM124J
designator U?
Low Power Quad Operational Amplifier, 14-pin CerDIP; PartNumber: LM124J; Manufacturer: National Semiconductor; PackageTopMarking: NSUZXYYTT*LM124J; PowerWise: N; CompType: Amplifiers; High-Reliability: Y; DatasheetVersion: Aug-2000; PackageVersion: revJ, Jul-2002; PackageReference: J14A; PackageDescription: Cerdip, .400 x .310in Body, 14 Lead, .300in Centers, .100in Pitch; RoHS: N; PinCount: 14; ComponentLink1Description: Manufacturer URL; ComponentLink1URL: http://www.national.com/; ComponentLink2Description: LM124 Datasheet; ComponentLink2URL: http://www.national.com/ds/LM/LM124.pdf; ComponentLink3Description: LM124 Web Page; ComponentLink3URL: http://www.national.com/pf/LM/LM124.html; ComponentLink4Description: J14A Package Page; ComponentLink4URL: http://www.national.com/packaging/folders/j14a.html
footprint J14A (DIP, 14-Leads, Row Spacing 7.62mm, Pitch 2.54mm, Body 19.56x6.73mm)
pins on every part: 4 V+ (power), 11 GND (power)
part A pins: 1 OUT1 (out), 2 IN1- (in), 3 IN1+ (in)
part B pins: 5 IN2+ (in), 6 IN2- (in), 7 OUT2 (out)
part C pins: 8 OUT3 (out), 9 IN3- (in), 10 IN3+ (in)
part D pins: 12 IN4+ (in), 13 IN4- (in), 14 OUT4 (out)

## LM124J/883
designator U?
Low Power Quad Operational Amplifier, 14-pin CerDIP; PartNumber: LM124J/883; Manufacturer: National Semiconductor; PackageTopMarking: NSZSSXXYYA*LM124J/883 Q*7704301CA 27014; PowerWise: N; CompType: Amplifiers; High-Reliability: Y; DatasheetVersion: Aug-2000; PackageVersion: revJ, Jul-2002; PackageReference: J14A; PackageDescription: Cerdip, .400 x .310in Body, 14 Lead, .300in Centers, .100in Pitch; RoHS: N; PinCount: 14; ComponentLink1Description: Manufacturer URL; ComponentLink1URL: http://www.national.com/; ComponentLink2Description: LM124 Datasheet; ComponentLink2URL: http://www.national.com/ds/LM/LM124AQML.pdf; ComponentLink3Description: LM124 Web Page; ComponentLink3URL: http://www.national.com/pf/LM/LM124.html; ComponentLink4Description: J14A Package Page; ComponentLink4URL: http://www.national.com/packaging/folders/j14a.html
footprint J14A (DIP, 14-Leads, Row Spacing 7.62mm, Pitch 2.54mm, Body 19.56x6.73mm)
pins on every part: 4 V+ (power), 11 GND (power)
part A pins: 1 OUT1 (out), 2 IN1- (in), 3 IN1+ (in)
part B pins: 5 IN2+ (in), 6 IN2- (in), 7 OUT2 (out)
part C pins: 8 OUT3 (out), 9 IN3- (in), 10 IN3+ (in)
part D pins: 12 IN4+ (in), 13 IN4- (in), 14 OUT4 (out)

## LM139AE/883
designator U?
Low Power Low Offset Voltage Quad Comparator, 20-pin LCC; PartNumber: LM139AE/883; Manufacturer: National Semiconductor; PackageTopMarking: NSZSSXXYYA*LM139AE*/883 Q; PowerWise: N; CompType: Amplifiers; High-Reliability: Y; DatasheetVersion: Apr-2008; PackageVersion: revF, May-2004; PackageReference: E20A; PackageDescription: Leadless Chip Carrier, Type C, 20 Terminal; RoHS: N; PinCount: 20; Code_JEDEC: MS-004-CB; ComponentLink1Description: Manufacturer URL; ComponentLink1URL: http://www.national.com/; ComponentLink2Description: LM139A Datasheet; ComponentLink2URL: http://www.national.com/ds/LM/LM139AQML.pdf; ComponentLink3Description: LM139A Web Page; ComponentLink3URL: http://www.national.com/pf/LM/LM139A.html; ComponentLink4Description: E20A Package Page; ComponentLink4URL: http://www.national.com/packaging/folders/e20a.html
footprint E20A_N (Leadless Chip Carrier, 20-Leads, Body 8.9x8.9mm, Pitch 1.27mm, IPC Medium Density)
footprint E20A_L (Leadless Chip Carrier, 20-Leads, Body 8.9x8.9mm, Pitch 1.27mm, IPC High Density)
footprint E20A_M (Leadless Chip Carrier, 20-Leads, Body 8.9x8.9mm, Pitch 1.27mm, IPC Low Density)
pins on every part: 4 V+ (power), 18 GND (power)
part A pins: 3 OUT1 (out), 6 IN1- (in), 8 IN1+ (in)
part B pins: 2 OUT2 (out), 9 IN2- (in), 10 IN2+ (in)
part C pins: 12 IN3- (in), 13 IN3+ (in), 20 OUT3 (out)
part D pins: 14 IN4- (in), 16 IN4+ (in), 19 OUT4 (out)
part E pins: 1 NC, 5 NC, 7 NC, 11 NC, 15 NC, 17 NC

## LM139AJ/883
designator U?
Low Power Low Offset Voltage Quad Comparator, 14-pin CerDIP; PartNumber: LM139AJ/883; Manufacturer: National Semiconductor; PackageTopMarking: NSZSSXXYYA*LM139AJ/883 Q; PowerWise: N; CompType: Amplifiers; High-Reliability: Y; DatasheetVersion: Mar-2004; PackageVersion: revJ, Jul-2002; PackageReference: J14A; PackageDescription: Cerdip, .400 x .310in Body, 14 Lead, .300in Centers, .100in Pitch; RoHS: N; PinCount: 14; ComponentLink1Description: Manufacturer URL; ComponentLink1URL: http://www.national.com/; ComponentLink2Description: LM139A Datasheet; ComponentLink2URL: http://www.national.com/ds/LM/LM139AQML.pdf; ComponentLink3Description: LM139A Web Page; ComponentLink3URL: http://www.national.com/pf/LM/LM139A.html; ComponentLink4Description: J14A Package Page; ComponentLink4URL: http://www.national.com/packaging/folders/j14a.html
footprint J14A (DIP, 14-Leads, Row Spacing 7.62mm, Pitch 2.54mm, Body 19.56x6.73mm)
pins on every part: 3 V+ (power), 12 GND (power)
part A pins: 2 OUT1 (out), 4 IN1- (in), 5 IN1+ (in)
part B pins: 1 OUT2 (out), 6 IN2- (in), 7 IN2+ (in)
part C pins: 8 IN3- (in), 9 IN3+ (in), 14 OUT3 (out)
part D pins: 10 IN4- (in), 11 IN4+ (in), 13 OUT4 (out)

## LM139AJRLQMLV
designator U?
Low Power Low Offset Voltage Quad Comparator, 14-pin CerDIP; PartNumber: LM139AJRLQMLV; Manufacturer: National Semiconductor; PackageTopMarking: NSZSSXXYYA*LM139AJRLQV Q*5962R9673802VCA; PowerWise: N; CompType: Amplifiers; High-Reliability: Y; DatasheetVersion: Mar-2004; PackageVersion: revJ, Jul-2002; PackageReference: J14A; PackageDescription: Cerdip, .400 x .310in Body, 14 Lead, .300in Centers, .100in Pitch; RoHS: N; PinCount: 14; ComponentLink1Description: Manufacturer URL; ComponentLink1URL: http://www.national.com/; ComponentLink2Description: LM139A Datasheet; ComponentLink2URL: http://www.national.com/ds/LM/LM139AQML.pdf; ComponentLink3Description: LM139A Web Page; ComponentLink3URL: http://www.national.com/pf/LM/LM139A.html; ComponentLink4Description: J14A Package Page; ComponentLink4URL: http://www.national.com/packaging/folders/j14a.html
footprint J14A (DIP, 14-Leads, Row Spacing 7.62mm, Pitch 2.54mm, Body 19.56x6.73mm)
pins on every part: 3 V+ (power), 12 GND (power)
part A pins: 2 OUT1 (out), 4 IN1- (in), 5 IN1+ (in)
part B pins: 1 OUT2 (out), 6 IN2- (in), 7 IN2+ (in)
part C pins: 8 IN3- (in), 9 IN3+ (in), 14 OUT3 (out)
part D pins: 10 IN4- (in), 11 IN4+ (in), 13 OUT4 (out)

## LM139AJRQMLV
designator U?
Low Power Low Offset Voltage Quad Comparator, 14-pin CerDIP; PartNumber: LM139AJRQMLV; Manufacturer: National Semiconductor; PackageTopMarking: NSZSSXXYYA*LM139AJRQV Q*5962R9673801VCA; PowerWise: N; CompType: Amplifiers; High-Reliability: Y; DatasheetVersion: Mar-2004; PackageVersion: revJ, Jul-2002; PackageReference: J14A; PackageDescription: Cerdip, .400 x .310in Body, 14 Lead, .300in Centers, .100in Pitch; RoHS: N; PinCount: 14; ComponentLink1Description: Manufacturer URL; ComponentLink1URL: http://www.national.com/; ComponentLink2Description: LM139A Datasheet; ComponentLink2URL: http://www.national.com/ds/LM/LM139AQML.pdf; ComponentLink3Description: LM139A Web Page; ComponentLink3URL: http://www.national.com/pf/LM/LM139A.html; ComponentLink4Description: J14A Package Page; ComponentLink4URL: http://www.national.com/packaging/folders/j14a.html
footprint J14A (DIP, 14-Leads, Row Spacing 7.62mm, Pitch 2.54mm, Body 19.56x6.73mm)
pins on every part: 3 V+ (power), 12 GND (power)
part A pins: 2 OUT1 (out), 4 IN1- (in), 5 IN1+ (in)
part B pins: 1 OUT2 (out), 6 IN2- (in), 7 IN2+ (in)
part C pins: 8 IN3- (in), 9 IN3+ (in), 14 OUT3 (out)
part D pins: 10 IN4- (in), 11 IN4+ (in), 13 OUT4 (out)

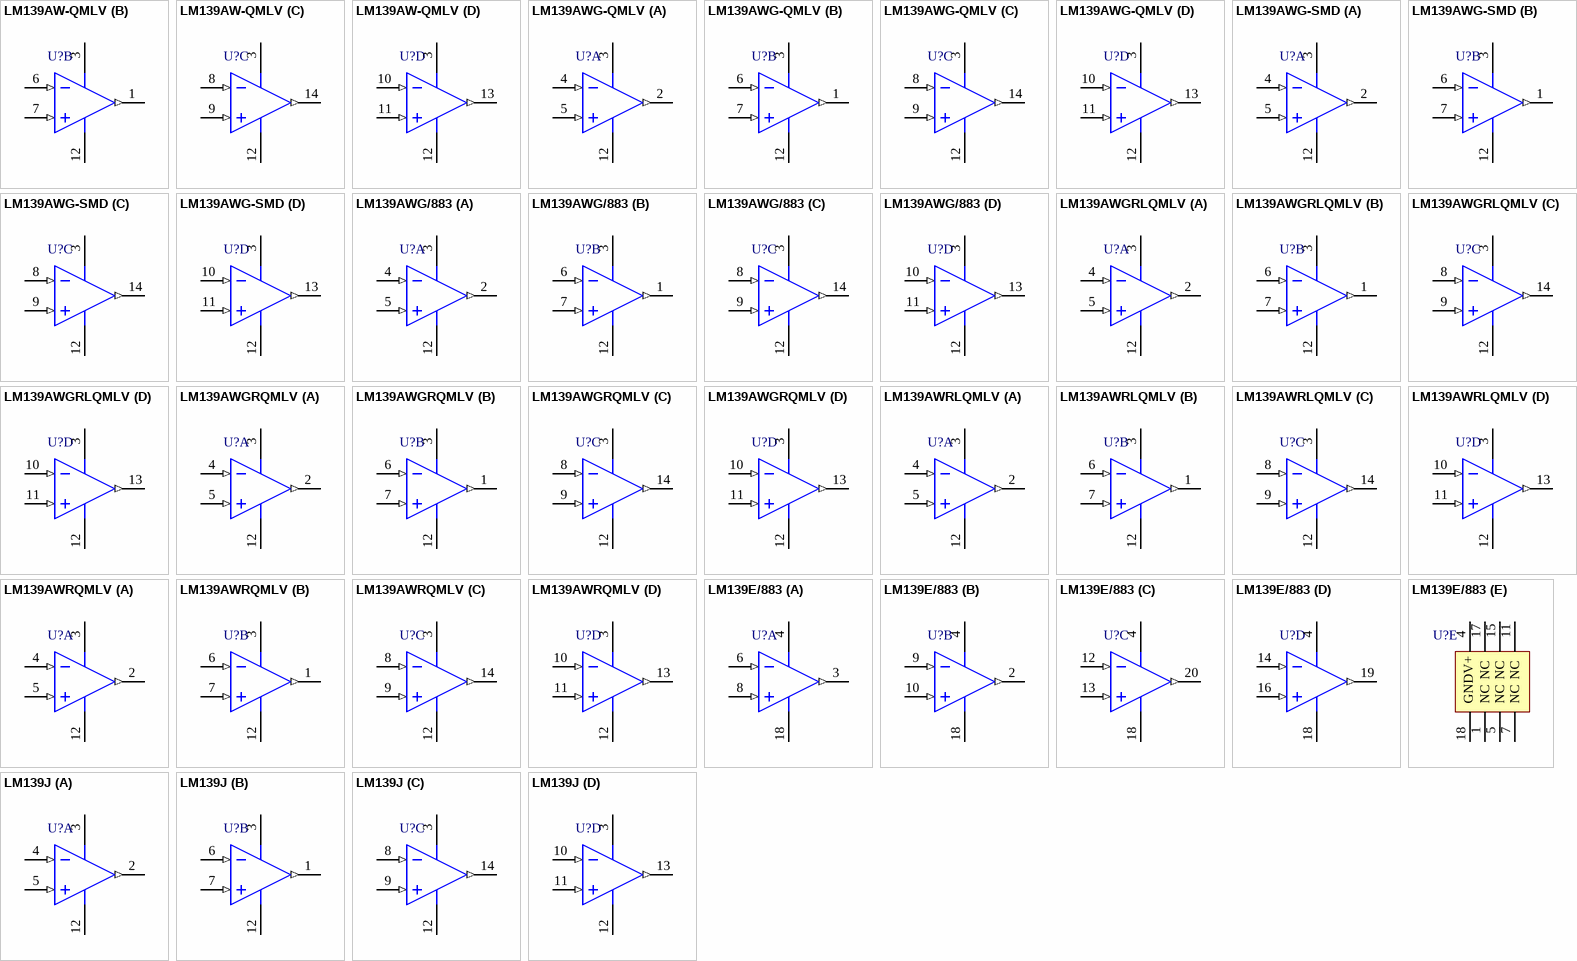
[diagram p7: symbols LM139AW-QMLV to LM139J]

## LM139AW-QMLV
designator U?
Low Power Low Offset Voltage Quad Comparator, 14-pin CerPACK; PartNumber: LM139AW-QMLV; Manufacturer: National Semiconductor; PackageTopMarking: NSZSSXXYYA*LM139AW-*QV Q 5962-*9673801VDA; PowerWise: N; CompType: Amplifiers; High-Reliability: Y; DatasheetVersion: Mar-2004; PackageVersion: revP, Jun-2004; PackageReference: W14B; PackageDescription: Cerpack, .390 x .250 x .070in Body, 14 Lead, .050in Pitch; RoHS: N; PinCount: 14; Code_JEDEC: MO-092-AB; ComponentLink1Description: Manufacturer URL; ComponentLink1URL: http://www.national.com/; ComponentLink2Description: LM139A Datasheet; ComponentLink2URL: http://www.national.com/ds/LM/LM139AQML.pdf; ComponentLink3Description: LM139A Web Page; ComponentLink3URL: http://www.national.com/pf/LM/LM139A.html; ComponentLink4Description: W14B Package Page; ComponentLink4URL: http://www.national.com/packaging/folders/w14b.html
footprint W14B (DFP; 14 Leads; Body 9.8 x 7.1 mm (LxW max); Pitch 1.27 mm)
pins on every part: 3 V+ (power), 12 GND (power)
part A pins: 2 OUT1 (out), 4 IN1- (in), 5 IN1+ (in)
part B pins: 1 OUT2 (out), 6 IN2- (in), 7 IN2+ (in)
part C pins: 8 IN3- (in), 9 IN3+ (in), 14 OUT3 (out)
part D pins: 10 IN4- (in), 11 IN4+ (in), 13 OUT4 (out)

## LM139AWG-QMLV
designator U?
Low Power Low Offset Voltage Quad Comparator, 14-pin CerPACK; PartNumber: LM139AWG-QMLV; Manufacturer: National Semiconductor; PackageTopMarking: NSZSSXXYYA*LM139AWG-*QV Q 5962-*9673801VXA; PowerWise: N; CompType: Amplifiers; High-Reliability: Y; DatasheetVersion: Mar-2004; PackageVersion: revD, Jul-2007; PackageReference: WG14A; PackageDescription: Cerpack, .390 x .250 x .070in, 14 Lead, .050in Pitch, Gull Wing; RoHS: N; PinCount: 14; ComponentLink1Description: Manufacturer URL; ComponentLink1URL: http://www.national.com/; ComponentLink2Description: LM139A Datasheet; ComponentLink2URL: http://www.national.com/ds/LM/LM139AQML.pdf; ComponentLink3Description: LM139A Web Page; ComponentLink3URL: http://www.national.com/pf/LM/LM139A.html; ComponentLink4Description: WG14A Package Page; ComponentLink4URL: http://www.national.com/packaging/folders/wg14a.html
footprint WG14A_N (CERPACK, 14-Leads, Body 9.9x6.5mm, Pitch 1.27mm, IPC Medium Density)
footprint WG14A_L (CERPACK, 14-Leads, Body 9.9x6.5mm, Pitch 1.27mm, IPC High Density)
footprint WG14A_M (CERPACK, 14-Leads, Body 9.9x6.5mm, Pitch 1.27mm, IPC Low Density)
pins on every part: 3 V+ (power), 12 GND (power)
part A pins: 2 OUT1 (out), 4 IN1- (in), 5 IN1+ (in)
part B pins: 1 OUT2 (out), 6 IN2- (in), 7 IN2+ (in)
part C pins: 8 IN3- (in), 9 IN3+ (in), 14 OUT3 (out)
part D pins: 10 IN4- (in), 11 IN4+ (in), 13 OUT4 (out)

## LM139AWG-SMD
designator U?
Low Power Low Offset Voltage Quad Comparator, 14-pin CerPACK; PartNumber: LM139AWG-SMD; Manufacturer: National Semiconductor; PackageTopMarking: NSZSSXXYYA*5962-*8773901XA Q; PowerWise: N; CompType: Amplifiers; High-Reliability: Y; DatasheetVersion: Mar-2004; PackageVersion: revD, Jul-2007; PackageReference: WG14A; PackageDescription: Cerpack, .390 x .250 x .070in, 14 Lead, .050in Pitch, Gull Wing; RoHS: N; PinCount: 14; ComponentLink1Description: Manufacturer URL; ComponentLink1URL: http://www.national.com/; ComponentLink2Description: LM139A Datasheet; ComponentLink2URL: http://www.national.com/ds/LM/LM139AQML.pdf; ComponentLink3Description: LM139A Web Page; ComponentLink3URL: http://www.national.com/pf/LM/LM139A.html; ComponentLink4Description: WG14A Package Page; ComponentLink4URL: http://www.national.com/packaging/folders/wg14a.html
footprint WG14A_N (CERPACK, 14-Leads, Body 9.9x6.5mm, Pitch 1.27mm, IPC Medium Density)
footprint WG14A_L (CERPACK, 14-Leads, Body 9.9x6.5mm, Pitch 1.27mm, IPC High Density)
footprint WG14A_M (CERPACK, 14-Leads, Body 9.9x6.5mm, Pitch 1.27mm, IPC Low Density)
pins on every part: 3 V+ (power), 12 GND (power)
part A pins: 2 OUT1 (out), 4 IN1- (in), 5 IN1+ (in)
part B pins: 1 OUT2 (out), 6 IN2- (in), 7 IN2+ (in)
part C pins: 8 IN3- (in), 9 IN3+ (in), 14 OUT3 (out)
part D pins: 10 IN4- (in), 11 IN4+ (in), 13 OUT4 (out)

## LM139AWG/883
designator U?
Low Power Low Offset Voltage Quad Comparator, 14-pin CerPACK; PartNumber: LM139AWG/883; Manufacturer: National Semiconductor; PackageTopMarking: NSZSSXXYYA*LM139AWG/883*Q; PowerWise: N; CompType: Amplifiers; High-Reliability: Y; DatasheetVersion: Mar-2004; PackageVersion: revD, Jul-2007; PackageReference: WG14A; PackageDescription: Cerpack, .390 x .250 x .070in, 14 Lead, .050in Pitch, Gull Wing; RoHS: N; PinCount: 14; ComponentLink1Description: Manufacturer URL; ComponentLink1URL: http://www.national.com/; ComponentLink2Description: LM139A Datasheet; ComponentLink2URL: http://www.national.com/ds/LM/LM139AQML.pdf; ComponentLink3Description: LM139A Web Page; ComponentLink3URL: http://www.national.com/pf/LM/LM139A.html; ComponentLink4Description: WG14A Package Page; ComponentLink4URL: http://www.national.com/packaging/folders/wg14a.html
footprint WG14A_N (CERPACK, 14-Leads, Body 9.9x6.5mm, Pitch 1.27mm, IPC Medium Density)
footprint WG14A_L (CERPACK, 14-Leads, Body 9.9x6.5mm, Pitch 1.27mm, IPC High Density)
footprint WG14A_M (CERPACK, 14-Leads, Body 9.9x6.5mm, Pitch 1.27mm, IPC Low Density)
pins on every part: 3 V+ (power), 12 GND (power)
part A pins: 2 OUT1 (out), 4 IN1- (in), 5 IN1+ (in)
part B pins: 1 OUT2 (out), 6 IN2- (in), 7 IN2+ (in)
part C pins: 8 IN3- (in), 9 IN3+ (in), 14 OUT3 (out)
part D pins: 10 IN4- (in), 11 IN4+ (in), 13 OUT4 (out)

## LM139AWGRLQMLV
designator U?
Low Power Low Offset Voltage Quad Comparator, 14-pin CerPACK; PartNumber: LM139AWGRLQMLV; Manufacturer: National Semiconductor; PackageTopMarking: NSZSSXXYYA*LM139AWGRL*QV Q 5962R*9673802VXA; PowerWise: N; CompType: Amplifiers; High-Reliability: Y; DatasheetVersion: Mar-2004; PackageVersion: revD, Jul-2007; PackageReference: WG14A; PackageDescription: Cerpack, .390 x .250 x .070in, 14 Lead, .050in Pitch, Gull Wing; RoHS: N; PinCount: 14; ComponentLink1Description: Manufacturer URL; ComponentLink1URL: http://www.national.com/; ComponentLink2Description: LM139A Datasheet; ComponentLink2URL: http://www.national.com/ds/LM/LM139AQML.pdf; ComponentLink3Description: LM139A Web Page; ComponentLink3URL: http://www.national.com/pf/LM/LM139A.html; ComponentLink4Description: WG14A Package Page; ComponentLink4URL: http://www.national.com/packaging/folders/wg14a.html
footprint WG14A_N (CERPACK, 14-Leads, Body 9.9x6.5mm, Pitch 1.27mm, IPC Medium Density)
footprint WG14A_L (CERPACK, 14-Leads, Body 9.9x6.5mm, Pitch 1.27mm, IPC High Density)
footprint WG14A_M (CERPACK, 14-Leads, Body 9.9x6.5mm, Pitch 1.27mm, IPC Low Density)
pins on every part: 3 V+ (power), 12 GND (power)
part A pins: 2 OUT1 (out), 4 IN1- (in), 5 IN1+ (in)
part B pins: 1 OUT2 (out), 6 IN2- (in), 7 IN2+ (in)
part C pins: 8 IN3- (in), 9 IN3+ (in), 14 OUT3 (out)
part D pins: 10 IN4- (in), 11 IN4+ (in), 13 OUT4 (out)

## LM139AWGRQMLV
designator U?
Low Power Low Offset Voltage Quad Comparator, 14-pin CerPACK; PartNumber: LM139AWGRQMLV; Manufacturer: National Semiconductor; PackageTopMarking: NSZSSXXYYA*LM139AWGR*QV Q 5962R*9673801VXA; PowerWise: N; CompType: Amplifiers; High-Reliability: Y; DatasheetVersion: Mar-2004; PackageVersion: revD, Jul-2007; PackageReference: WG14A; PackageDescription: Cerpack, .390 x .250 x .070in, 14 Lead, .050in Pitch, Gull Wing; RoHS: N; PinCount: 14; ComponentLink1Description: Manufacturer URL; ComponentLink1URL: http://www.national.com/; ComponentLink2Description: LM139A Datasheet; ComponentLink2URL: http://www.national.com/ds/LM/LM139AQML.pdf; ComponentLink3Description: LM139A Web Page; ComponentLink3URL: http://www.national.com/pf/LM/LM139A.html; ComponentLink4Description: WG14A Package Page; ComponentLink4URL: http://www.national.com/packaging/folders/wg14a.html
footprint WG14A_N (CERPACK, 14-Leads, Body 9.9x6.5mm, Pitch 1.27mm, IPC Medium Density)
footprint WG14A_L (CERPACK, 14-Leads, Body 9.9x6.5mm, Pitch 1.27mm, IPC High Density)
footprint WG14A_M (CERPACK, 14-Leads, Body 9.9x6.5mm, Pitch 1.27mm, IPC Low Density)
pins on every part: 3 V+ (power), 12 GND (power)
part A pins: 2 OUT1 (out), 4 IN1- (in), 5 IN1+ (in)
part B pins: 1 OUT2 (out), 6 IN2- (in), 7 IN2+ (in)
part C pins: 8 IN3- (in), 9 IN3+ (in), 14 OUT3 (out)
part D pins: 10 IN4- (in), 11 IN4+ (in), 13 OUT4 (out)

## LM139AWRLQMLV
designator U?
Low Power Low Offset Voltage Quad Comparator, 14-pin CerPACK; PartNumber: LM139AWRLQMLV; Manufacturer: National Semiconductor; PackageTopMarking: NSZSSXXYYA*LM139AWRL*QV Q 5962R*9673802VDA; PowerWise: N; CompType: Amplifiers; High-Reliability: Y; DatasheetVersion: Mar-2004; PackageVersion: revP, Jun-2004; PackageReference: W14B; PackageDescription: Cerpack, .390 x .250 x .070in Body, 14 Lead, .050in Pitch; RoHS: N; PinCount: 14; Code_JEDEC: MO-092-AB; ComponentLink1Description: Manufacturer URL; ComponentLink1URL: http://www.national.com/; ComponentLink2Description: LM139A Datasheet; ComponentLink2URL: http://www.national.com/ds/LM/LM139AQML.pdf; ComponentLink3Description: LM139A Web Page; ComponentLink3URL: http://www.national.com/pf/LM/LM139A.html; ComponentLink4Description: W14B Package Page; ComponentLink4URL: http://www.national.com/packaging/folders/w14b.html
footprint W14B (DFP; 14 Leads; Body 9.8 x 7.1 mm (LxW max); Pitch 1.27 mm)
pins on every part: 3 V+ (power), 12 GND (power)
part A pins: 2 OUT1 (out), 4 IN1- (in), 5 IN1+ (in)
part B pins: 1 OUT2 (out), 6 IN2- (in), 7 IN2+ (in)
part C pins: 8 IN3- (in), 9 IN3+ (in), 14 OUT3 (out)
part D pins: 10 IN4- (in), 11 IN4+ (in), 13 OUT4 (out)